# EAGLE library part MMC_SOCK (library card_adapters)
MMC/SD Card Connector
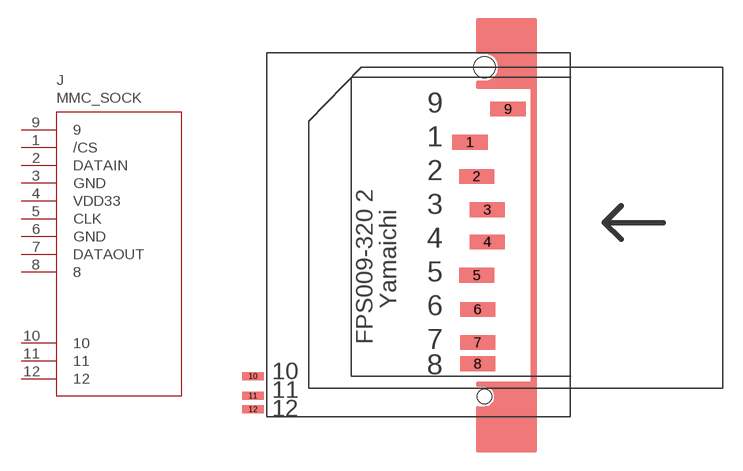
[diagram p4: symbol with the pads of MMC_SOCK; footprint MMC_SOCK]

Designator prefix J

## MMC_SOCK  [MMC_SOCK]
1  /CS  in
2  DATAIN  in
3  GND  pwr
4  VDD33  pwr
5  CLK  in
6  GND  pwr
7  DATAOUT  out
8  8
9  9
10  10  pas
11  11  pas
12  12  pas

## Footprint MMC_SOCK (pad centres in mm)
smd 2.65 x 1.1: 1 15.291,20.65; 2 15.799,18.085; 3 16.586,15.57; 4 16.586,13.157; 5 15.799,10.643; 6 15.875,8.077; 7 15.875,5.588; 8 15.875,3.988; 9 18.161,23.139
smd 1.6 x 0.6: 10 -1.016,3.048; 11 -1.016,1.575; 12 -1.016,0.559
hole 1.1 at 16.383,1.524
hole 1.6 at 16.383,26.289